# Altium footprint library Receiver.PcbLib: 9 footprints
Each footprint in its own frame and in the unit in brackets; x right, y up, seen from the top. Pads: shape width x height; smd on the part's side, far side on the other; paste and mask are expansions set on the pad; w line width, h text height; cw(c..) or ccw(c..) is an arc to the next point about the centre after c.
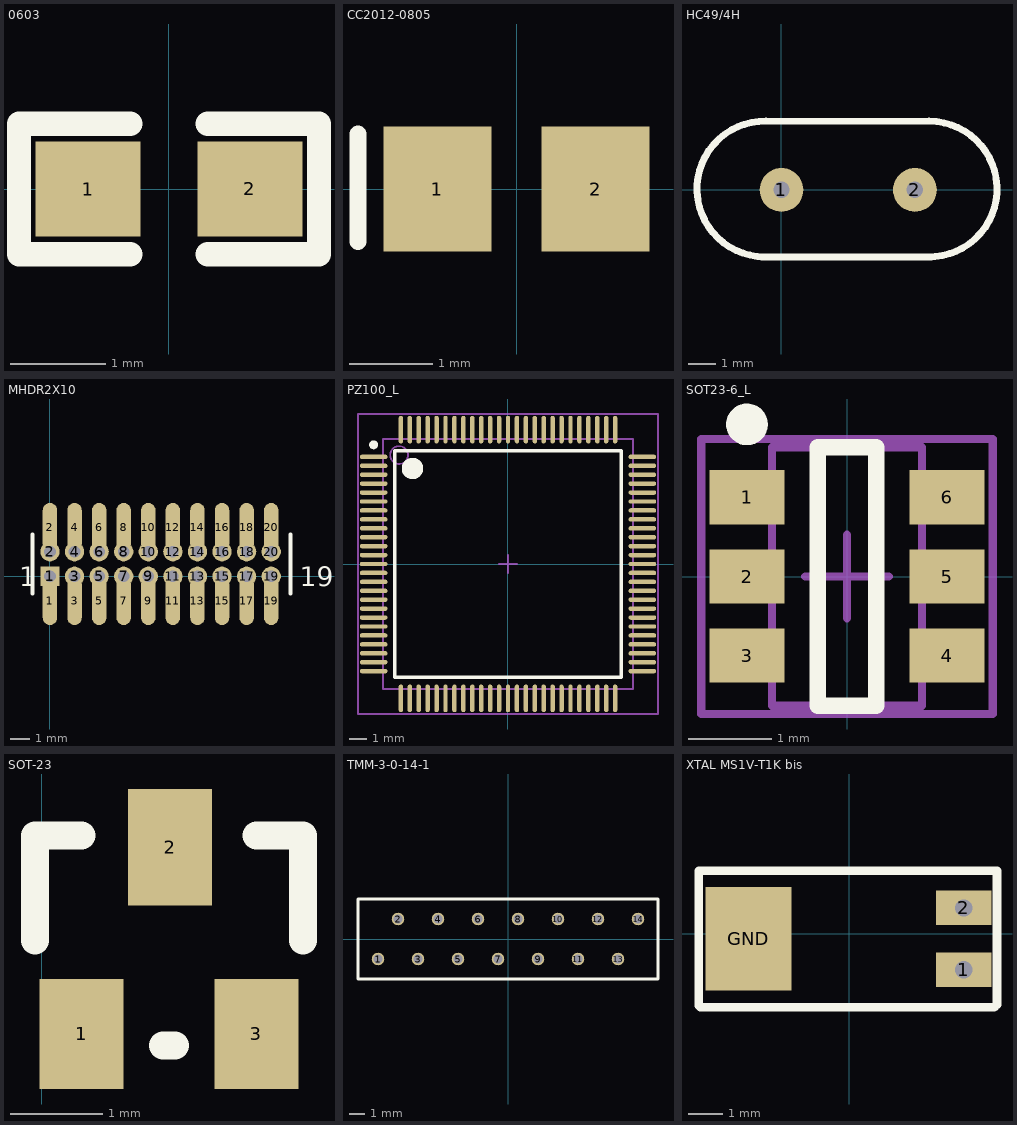
[diagram p0: the footprints below, top view; thin cyan lines are the x and y axes]

## 0603 [mm]
height 38.1
pads (2):
  rect 1.1x1.001 smd: 1(-0.85,0) 2(0.85,0)
Top Overlay:
  lines w0.254: -0.406,-0.686 -1.575,-0.686 -1.575,0.686 -0.406,0.686 ; 0.406,-0.686 1.575,-0.686 1.575,0.686 0.406,0.686

## CC2012-0805 [mm] "Chip Capacitor; Body 2.0 x 1.2 mm (LxW typ)"
height 1.1
pads (2):
  rect 1.3x1.5 smd: 1(-0.95,0) 2(0.95,0)
Top Overlay:
  lines w0.2: -1.905,-0.635 -1.905,0.665

## HC49/4H [mm] "Xtal 2 pines"
pads (2):
  round 1.6 hole 0.6: 1(0,0) 2(4.88,0)
Top Overlay:
  lines w0.254: -0.737,-2.449 5.48,-2.45 ; -0.69,2.51 5.44,2.51 ; -0.609,-2.447 cw(c-0.609,0.034) -0.559,2.514 ; 5.35,-2.45 ccw(c5.4,0.03) 5.4,2.511

## MHDR2X10 [mm] "Connector; Header; 10x2 Position"
pads (40):
  oval 0.75x2.5 smd: 1(0,-1.27) 2(0,2.54) 3(1.27,-1.27) 4(1.27,2.54) 5(2.54,-1.27) 6(2.54,2.54) 7(3.81,-1.27) 8(3.81,2.54) 9(5.08,-1.27) 10(5.08,2.54) 11(6.35,-1.27) 12(6.35,2.54) 13(7.62,-1.27) 14(7.62,2.54) 15(8.89,-1.27) 16(8.89,2.54) 17(10.16,-1.27) 18(10.16,2.54) 19(11.43,-1.27) 20(11.43,2.54)
  rect 1x1 hole 0.6: 1(0,0)
  round 1 hole 0.6: 2(0,1.27) 3(1.27,0) 4(1.27,1.27) 5(2.54,0) 6(2.54,1.27) 7(3.81,0) 8(3.81,1.27) 9(5.08,0) 10(5.08,1.27) 11(6.35,0) 12(6.35,1.27) 13(7.62,0) 14(7.62,1.27) 15(8.89,0) 16(8.89,1.27) 17(10.16,0) 18(10.16,1.27) 19(11.43,0) 20(11.43,1.27)
Top Overlay:
  lines w0.2: -0.9,-0.9 -0.9,2.17 ; 12.43,-0.9 12.43,2.17
  text "1" at -1.6,-0.508 h1
  text "19" at 12.9,-0.508 h1

## PZ100_L [mm] "100-Pin Thin Quad Flat Pack 0.5 mm Pitch, IPC High Density"
height 1.6
pads (100):
  oval 1.55x0.25 smd: 1(-7.525,6) 2(-7.525,5.5) 3(-7.525,5) 4(-7.525,4.5) 5(-7.525,4) 6(-7.525,3.5) 7(-7.525,3) 8(-7.525,2.5) 9(-7.525,2) 10(-7.525,1.5) 11(-7.525,1) 12(-7.525,0.5) 13(-7.525,0) 14(-7.525,-0.5) 15(-7.525,-1) 16(-7.525,-1.5) 17(-7.525,-2) 18(-7.525,-2.5) 19(-7.525,-3) 20(-7.525,-3.5) 21(-7.525,-4) 22(-7.525,-4.5) 23(-7.525,-5) 24(-7.525,-5.5) 25(-7.525,-6) 51(7.525,-6) 52(7.525,-5.5) 53(7.525,-5) 54(7.525,-4.5) 55(7.525,-4) 56(7.525,-3.5) 57(7.525,-3) 58(7.525,-2.5) 59(7.525,-2) 60(7.525,-1.5) 61(7.525,-1) 62(7.525,-0.5) 63(7.525,0) 64(7.525,0.5) 65(7.525,1) 66(7.525,1.5) 67(7.525,2) 68(7.525,2.5) 69(7.525,3) 70(7.525,3.5) 71(7.525,4) 72(7.525,4.5) 73(7.525,5) 74(7.525,5.5) 75(7.525,6)
  oval 0.25x1.55 smd: 26(-6,-7.525) 27(-5.5,-7.525) 28(-5,-7.525) 29(-4.5,-7.525) 30(-4,-7.525) 31(-3.5,-7.525) 32(-3,-7.525) 33(-2.5,-7.525) 34(-2,-7.525) 35(-1.5,-7.525) 36(-1,-7.525) 37(-0.5,-7.525) 38(0,-7.525) 39(0.5,-7.525) 40(1,-7.525) 41(1.5,-7.525) 42(2,-7.525) 43(2.5,-7.525) 44(3,-7.525) 45(3.5,-7.525) 46(4,-7.525) 47(4.5,-7.525) 48(5,-7.525) 49(5.5,-7.525) 50(6,-7.525) 76(6,7.525) 77(5.5,7.525) 78(5,7.525) 79(4.5,7.525) 80(4,7.525) 81(3.5,7.525) 82(3,7.525) 83(2.5,7.525) 84(2,7.525) 85(1.5,7.525) 86(1,7.525) 87(0.5,7.525) 88(0,7.525) 89(-0.5,7.525) 90(-1,7.525) 91(-1.5,7.525) 92(-2,7.525) 93(-2.5,7.525) 94(-3,7.525) 95(-3.5,7.525) 96(-4,7.525) 97(-4.5,7.525) 98(-5,7.525) 99(-5.5,7.525) 100(-6,7.525)
Top Overlay:
  circle w0.6: c-5.35,5.35 r0.3
  circle w0.25: c-7.525,6.675 r0.125
  lines w0.2: -6.35,-6.35 6.35,-6.35 6.35,6.35 -6.35,6.35 -6.35,-6.35
Mechanical 13:
  circle w0.1: c-6.1,6.1 r0.5
  lines w0.1: -7,-7 7,-7 7,7 -7,7 -7,-7
Mechanical 15:
  lines w0.1: -0.5,0 0.5,0 ; 0,-0.5 0,0.5 ; -8.4,-8.4 8.4,-8.4 8.4,8.4 -8.4,8.4 -8.4,-8.4
3D body: height 1.6, standoff 0, extent -7,-7 7,7

## SOT23-6_L [mm] "SOT23, 6-Leads, Body 2.9x1.6mm, Pitch 0.95mm, Lead Span 2.7mm, IPC High Density"
height 1.45
pads (6):
  rect 0.9x0.65 smd: 1(-1.2,0.95) 2(-1.2,0) 3(-1.2,-0.95) 4(1.2,-0.95) 5(1.2,0) 6(1.2,0.95)
Top Overlay:
  circle w0.25: c-1.2,1.825 r0.125
  lines w0.2: -0.35,-1.55 -0.35,1.55 0.35,1.55 0.35,-1.55 -0.35,-1.55
Mechanical 13:
  lines w0.1: -0.9,-1.55 0.9,-1.55 0.9,1.55 -0.9,1.55 -0.9,-1.55
Mechanical 15:
  lines w0.1: -0.5,0 0.5,0 ; 0,-0.5 0,0.5 ; -1.75,-1.65 1.75,-1.65 1.75,1.65 -1.75,1.65 -1.75,-1.65
3D body: height 1.45, standoff 0, extent -0.9,-1.55 0.9,1.55

## SOT-23 [mil]
pads (3):
  rect 36x47.24 smd: 1(17,41) 3(92,41)
  rect 36x50 smd: 2(55,121)
Top Overlay:
  lines w12: -3,81 -3,126 17,126 ; 52,36 57,36 ; 92,126 112,126 112,81

## TMM-3-0-14-1 [mm] "AMPHENOL - TMM-3-0-14-1 - MACHO, DIP, 1,27 mm, 14VÍAS"
height 9.9
pads (14):
  round 0.8 hole 0.6: 1(-8.255,-1.27) 2(-6.985,1.27) 3(-5.715,-1.27) 4(-4.445,1.27) 5(-3.175,-1.27) 6(-1.905,1.27) 7(-0.635,-1.27) 8(0.635,1.27) 9(1.905,-1.27) 10(3.175,1.27) 11(4.445,-1.27) 12(5.715,1.27) 13(6.985,-1.27) 14(8.255,1.27)
Top Overlay:
  lines w0.2: -9.525,-2.54 -9.525,2.54 9.525,2.54 9.525,-2.54 -9.525,-2.54

## XTAL MS1V-T1K bis [mm]
pads (3):
  rect 1.6x1 hole 0.5: 1(3.327,-1.048) 2(3.327,0.752)
  rect 2.5x3 smd: GND(-2.923,-0.148)
Top Overlay:
  lines w0.254: -4.369,-2.083 -4.318,-2.134 4.216,-2.134 4.293,-2.057 4.293,1.829 -4.369,1.829 -4.369,-2.083